# EAGLE library part RT9018B-18GSP (library work)
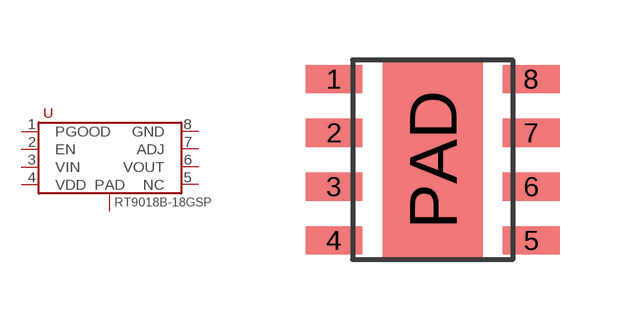
[diagram p19: symbol with the pads of 8SOP_POWER; footprint 8SOP_POWER]

Designator prefix U

## RT9018B-18GSP  [8SOP_POWER]
1  PGOOD
2  EN
3  VIN
4  VDD
5  NC
6  VOUT
7  ADJ
8  GND
PAD  P$1

## Footprint 8SOP_POWER (pad centres in mm)
smd 1.422 x 0.711: 1 -2.465,2.019; 2 -2.465,0.673; 3 -2.465,-0.673; 4 -2.465,-2.019; 5 2.465,-2.019; 6 2.465,-0.673; 7 2.465,0.673; 8 2.465,2.019
smd 2.5 x 5: PAD 0,0